# Altium schematic symbol library WE-PMI_0805.SchLib: 1 symbol
Pins are listed as number, name and electrical type; pins without a type are passive.

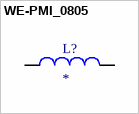
[diagram p0: symbol WE-PMI_0805]

## WE-PMI_0805
designator L?
WE-PMI Series 1 ÂµH Â±20% Multilayer SMD Inductor, 0805 Case; 0.1GHz 1.1A 190mO ¦ Wurth Electronics 74479774210; MF: WÃ¼rth Elektronik; SnapEDA_Link: https://www.snapeda.com/parts/74479774210/W%25C3%25BCrth+Elektronik+Midcom/view-part/?ref=snap; Package: 0805 Wurth Electronics; Value: *; MP: 74479774210; Check_prices: https://www.snapeda.com/parts/74479774210/W%25C3%25BCrth+Elektronik+Midcom/view-part/?ref=eda
footprint WE-PMI_0805_H0.5
pins: 1, 2